# Altium integrated library JCULibrary.IntLib: 13 symbols
Pins are listed as number, name and electrical type; pins without a type are passive.

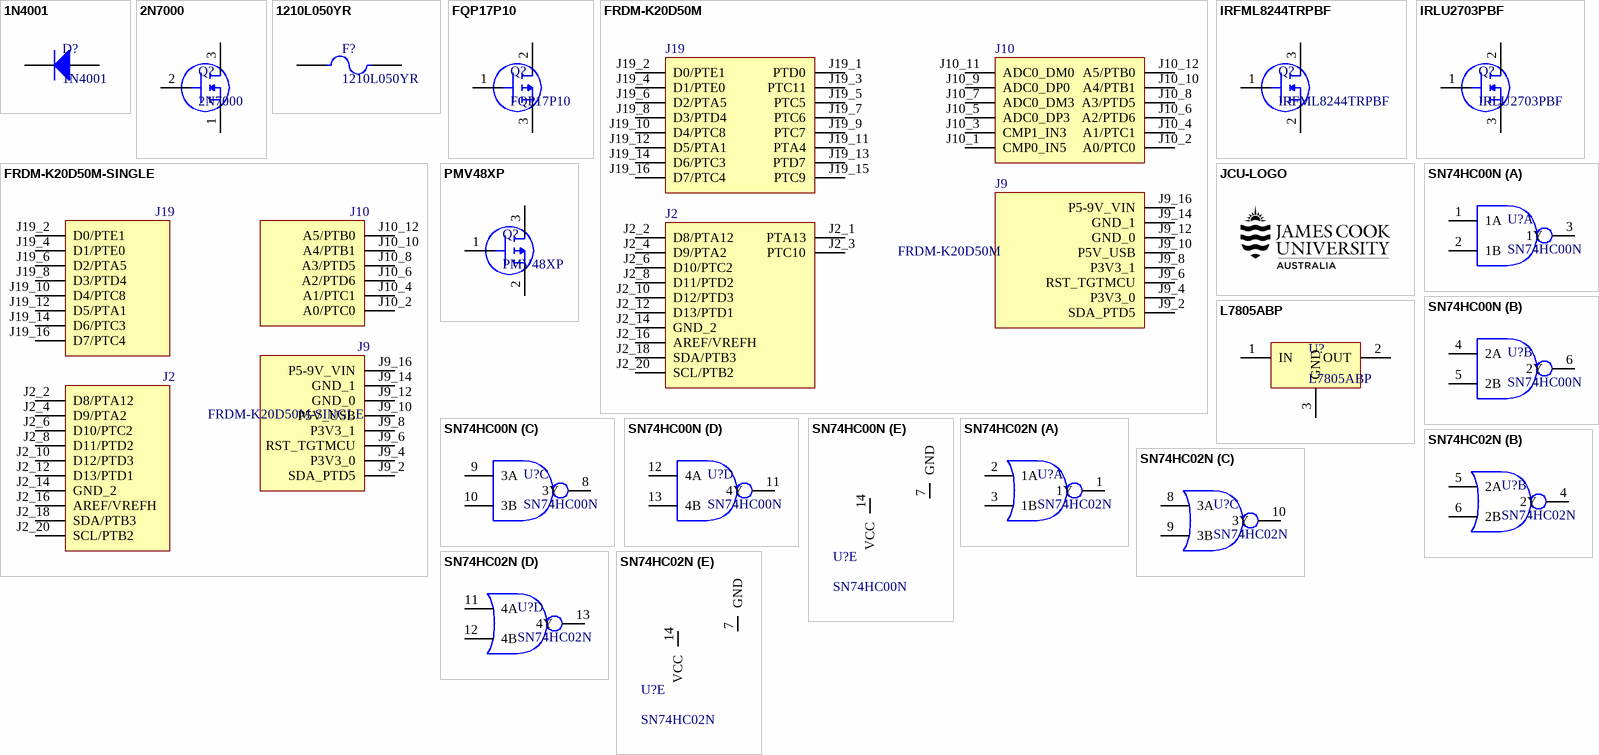
[diagram p0: symbols 1N4001 to SN74HC02N]

## 1N4001
designator D?
Diode 1A 50V
footprint DO-41 (Diode Outline 41)
pins: 1 (power), 2 (power)

## 2N7000
designator Q?
N-Channel Low Current MOSFET 200mA
footprint TO-92 (Transistor Outline 92)
pins: 1 S, 2 G, 3 D

## 1210L050YR
designator F?
Polyfuse 0.5 A 1210 Package
footprint Fuse-1210 (Polyfuse 1210 SMD)
pins: 1 (power), 2 (power)

## FQP17P10
designator Q?
P-Channel Power MOSFET 100 V 16.5 A
footprint TO-220 (Transistor Outline 220)
pins: 1 G, 2 D, 3 S

## FRDM-K20D50M
designator FRDM?
FRDM-K20D50M Standard
footprint FRDM-K20D50M (FRDM-K20D50M Standard)
pins: J2_1 PTA13, J2_2 D8/PTA12, J2_3 PTC10, J2_4 D9/PTA2, J2_6 D10/PTC2, J2_8 D11/PTD2, J2_10 D12/PTD3, J2_12 D13/PTD1, J2_14 GND_2, J2_16 AREF/VREFH, J2_18 SDA/PTB3, J2_20 SCL/PTB2, J9_2 SDA_PTD5, J9_4 P3V3_0, J9_6 RST_TGTMCU, J9_8 P3V3_1, J9_10 P5V_USB, J9_12 GND_0, J9_14 GND_1, J9_16 P5-9V_VIN, J10_1 CMP0_IN5, J10_2 A0/PTC0, J10_3 CMP1_IN3, J10_4 A1/PTC1, J10_5 ADC0_DP3, J10_6 A2/PTD6, J10_7 ADC0_DM3, J10_8 A3/PTD5, J10_9 ADC0_DP0, J10_10 A4/PTB1, J10_11 ADC0_DM0, J10_12 A5/PTB0, J19_1 PTD0, J19_2 D0/PTE1, J19_3 PTC11, J19_4 D1/PTE0, J19_5 PTC5, J19_6 D2/PTA5, J19_7 PTC6, J19_8 D3/PTD4, J19_9 PTC7, J19_10 D4/PTC8, J19_11 PTA4, J19_12 D5/PTA1, J19_13 PTD7, J19_14 D6/PTC3, J19_15 PTC9, J19_16 D7/PTC4
text: J19; J10; J9; J2

## FRDM-K20D50M-SINGLE
designator FRDM?
FRDM-K20D50M SINGLE
footprint FRDM-K20D50M-SINGLE (FRDM-K20D50M SINGLE)
pins: J2_2 D8/PTA12, J2_4 D9/PTA2, J2_6 D10/PTC2, J2_8 D11/PTD2, J2_10 D12/PTD3, J2_12 D13/PTD1, J2_14 GND_2, J2_16 AREF/VREFH, J2_18 SDA/PTB3, J2_20 SCL/PTB2, J9_2 SDA_PTD5, J9_4 P3V3_0, J9_6 RST_TGTMCU, J9_8 P3V3_1, J9_10 P5V_USB, J9_12 GND_0, J9_14 GND_1, J9_16 P5-9V_VIN, J10_2 A0/PTC0, J10_4 A1/PTC1, J10_6 A2/PTD6, J10_8 A3/PTD5, J10_10 A4/PTB1, J10_12 A5/PTB0, J19_2 D0/PTE1, J19_4 D1/PTE0, J19_6 D2/PTA5, J19_8 D3/PTD4, J19_10 D4/PTC8, J19_12 D5/PTA1, J19_14 D6/PTC3, J19_16 D7/PTC4
text: J19; J10; J9; J2

## IRFML8244TRPBF
designator Q?
N-Channel Power MOSFET 25 V 5.8 A
footprint SOT23 (Small-Outline Transistor 2x3)
pins: 1 G, 2 S, 3 D

## IRLU2703PBF
designator Q?
N-Channel Power MOSFET 30 V 22 A
footprint TO-251AA (Transistor Outline 251AA)
pins: 1 G, 2 D, 3 S

## JCU-LOGO
designator ?  (value not drawn)
James Cook University Logo
footprint JCU-LOGO-1004 (James Cook University Logo 1.0" x 0.4")

## L7805ABP
designator U?
Precision 5V 1A Regulator
footprint TO-220 (Transistor Outline 220); pin to pad 2>3 3>2
pins: 1 IN (power), 2 OUT (power), 3 GND (power)

## PMV48XP
designator Q?
P-Channel Power MOSFET 20 V 3.5 A
footprint SOT23 (Small-Outline Transistor 2x3)
pins: 1 G, 2 S, 3 D

## SN74HC00N
designator U?
Quad 2-Input NAND Gate
footprint DIP14 (14 Pin Dual In-Line Package)
part A pins: 1 1A, 2 1B, 3 1Y
part B pins: 4 2A, 5 2B, 6 2Y
part C pins: 8 3Y, 9 3A, 10 3B
part D pins: 11 4Y, 12 4A, 13 4B
part E pins: 7 GND (power), 14 VCC (power)

## SN74HC02N
designator U?
Quad 2-Input NOR Gate
footprint DIP14 (14 Pin Dual In-Line Package)
part A pins: 1 1Y, 2 1A, 3 1B
part B pins: 4 2Y, 5 2A, 6 2B
part C pins: 8 3A, 9 3B, 10 3Y
part D pins: 11 4A, 12 4B, 13 4Y
part E pins: 7 GND (power), 14 VCC (power)